# EAGLE library part RASPI_DSI (library raspberrypi_cm-1)
Raspberry Pi DSI connector www.hasseb.fi
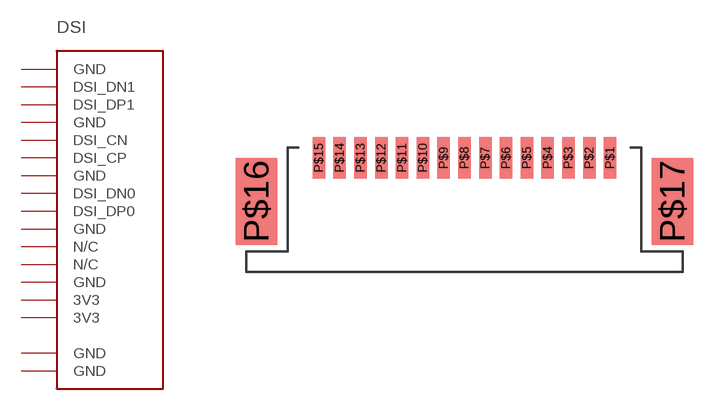
[diagram p2: symbol with the pads of FFC-15; footprint FFC-15]

Designator prefix DSI

## RASPI_DSI  [FFC-15]
P$1  GND
P$2  DSI_DN1
P$3  DSI_DP1
P$4  GND
P$5  DSI_CN
P$6  DSI_CP
P$7  GND
P$8  DSI_DN0
P$9  DSI_DP0
P$10  GND
P$11  N/C
P$12  N/C
P$13  GND
P$14  3V3
P$15  3V3
P$16  GND
P$17  GND

## Footprint FFC-15 (pad centres in mm)
smd 0.6 x 2: P$1 7,0; P$2 6,0; P$3 5,0; P$4 4,0; P$5 3,0; P$6 2,0; P$7 1,0; P$8 0,0; P$9 -1,0; P$10 -2,0; P$11 -3,0; P$12 -4,0; P$13 -5,0; P$14 -6,0; P$15 -7,0
smd 2 x 4.2: P$16 -10,-2.1; P$17 10,-2.1